# EAGLE library part AO4407A (library AO4407A)
30V P-Channel MOSFET Source: Datasheet <http://aosmd.com/res/data_sheets/AO4407A.pdf>
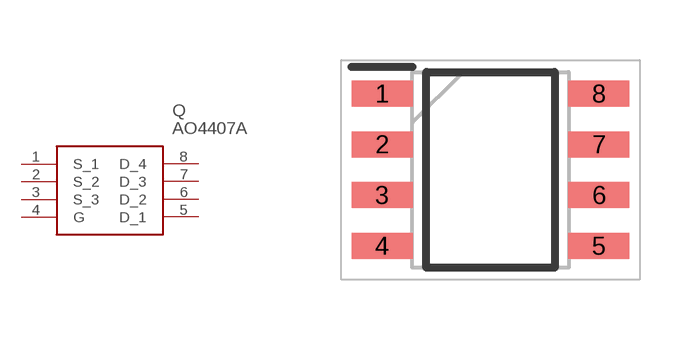
[diagram p0: symbol with the pads of SOIC127P600X175-8N; footprint SOIC127P600X175-8N]

Designator prefix Q

## AO4407A (Arrow_Part_Number: AO4407A; Arrow_Price-Stock: https://www.arrow.com/en/products/ao4407a/alpha-and-omega-semiconductor; Description: 30V P-Channel MOSFET; Height: 1.75mm; Manufacturer_Name: Alpha & Omega Semiconductors; Manufacturer_Part_Number: AO4407A)  [SOIC127P600X175-8N]
1  S_1
2  S_2
3  S_3
4  G
5  D_1
6  D_2
7  D_3
8  D_4

## Footprint SOIC127P600X175-8N (pad centres in mm)
SO8
smd 1.525 x 0.65: 1 -2.712,1.905; 2 -2.712,0.635; 3 -2.712,-0.635; 4 -2.712,-1.905; 5 2.712,-1.905; 6 2.712,-0.635; 7 2.712,0.635; 8 2.712,1.905